# Altium footprint library Connector_JST.PcbLib: 558 footprints (part 10 of 35)
Each footprint in its own frame and in the unit in brackets; x right, y up, seen from the top. Pads: shape width x height; smd on the part's side, far side on the other; paste and mask are expansions set on the pad; w line width, h text height; cw(c..) or ccw(c..) is an arc to the next point about the centre after c.
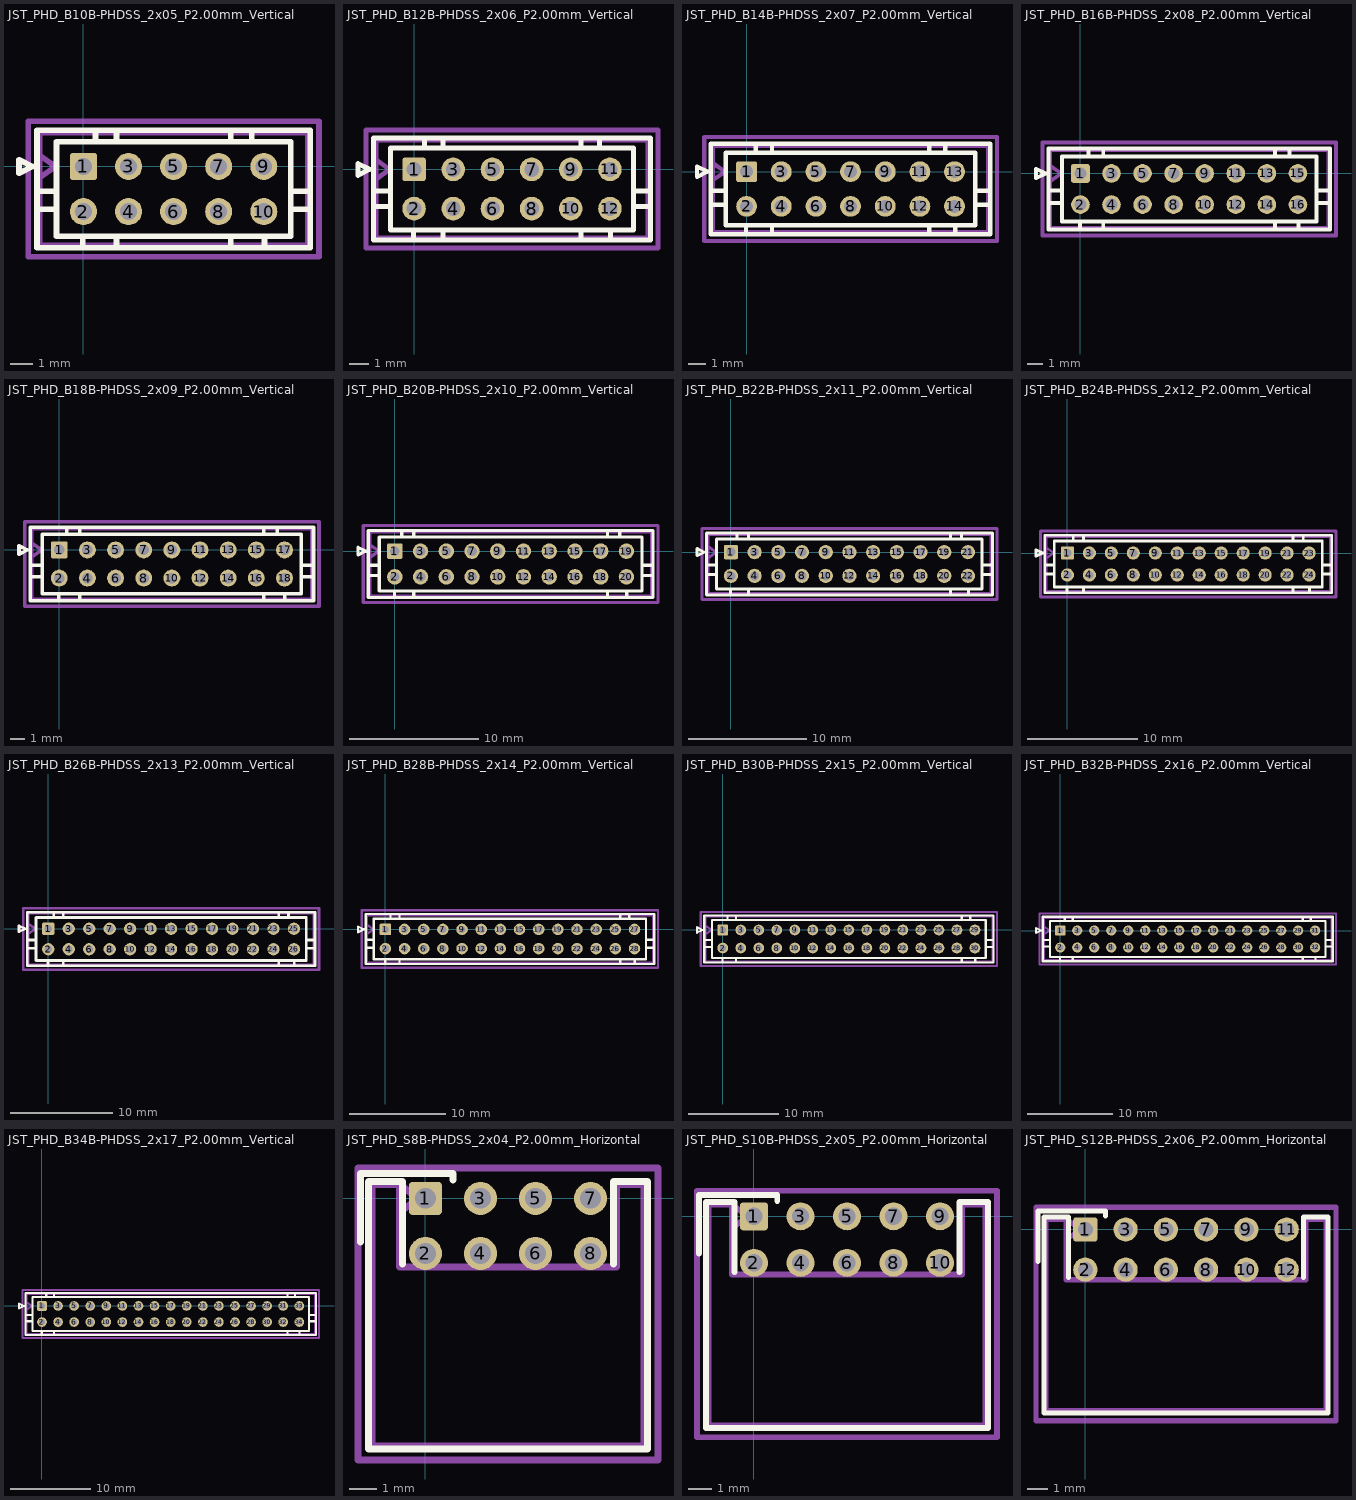
[diagram p9: the footprints below, top view; thin cyan lines are the x and y axes]

## JST_PHD_B10B-PHDSS_2x05_P2.00mm_Vertical [mm] "JST_PHD_B10B-PHDSS_2x05_P2.00mm_Vertical"
pads (10):
  rrect21% 1.2x1.2 hole 0.75: 1(0,0)
  round 1.2 hole 0.75: 2(0,-2) 3(2,0) 4(2,-2) 5(4,0) 6(4,-2) 7(6,0) 8(6,-2) 9(8,0) 10(8,-2)
F.SilkS:
  lines w0.254: -2.06,-1.9 -1.2,-1.9 ; -2.06,-1.1 -1.2,-1.1 ; -0.03,-3.61 -0.03,-3.1 ; 0.53,1.1 0.53,1.61 ; 1.47,-3.61 1.47,-3.1 ; 1.47,1.1 1.47,1.61 ; 6.53,-3.61 6.53,-3.1 ; 6.53,1.1 6.53,1.61 ; 7.47,1.1 7.47,1.61 ; 8.03,-3.61 8.03,-3.1 ; 9.2,-1.9 10.06,-1.9 ; 9.2,-1.1 10.06,-1.1 ; -2.86,-0.3 -2.86,0.3 -2.26,0 -2.86,-0.3 ; -2.06,-3.61 -2.06,1.61 10.06,1.61 10.06,-3.61 -2.06,-3.61 ; -1.2,-3.1 -1.2,1.1 9.2,1.1 9.2,-3.1 -1.2,-3.1
Top Component Center:
  lines w0.127: -0.127,0 0.127,0 ; 0,-0.127 0,0.127
Top Assembly:
  lines w0.254: -1.95,-0.5 -1.243,0 -1.95,0.5 ; -1.95,-3.5 -1.95,1.5 9.95,1.5 9.95,-3.5 -1.95,-3.5
Top Courtyard:
  lines w0.254: -2.45,-4 -2.45,2 10.45,2 10.45,-4 -2.45,-4
Top Designator:
  text ".Designator" at 0.365,-1.344 h1.52

## JST_PHD_B12B-PHDSS_2x06_P2.00mm_Vertical [mm] "JST_PHD_B12B-PHDSS_2x06_P2.00mm_Vertical"
pads (12):
  rrect21% 1.2x1.2 hole 0.75: 1(0,0)
  round 1.2 hole 0.75: 2(0,-2) 3(2,0) 4(2,-2) 5(4,0) 6(4,-2) 7(6,0) 8(6,-2) 9(8,0) 10(8,-2) 11(10,0) 12(10,-2)
F.SilkS:
  lines w0.254: -2.06,-1.9 -1.2,-1.9 ; -2.06,-1.1 -1.2,-1.1 ; -0.03,-3.61 -0.03,-3.1 ; 0.53,1.1 0.53,1.61 ; 1.47,-3.61 1.47,-3.1 ; 1.47,1.1 1.47,1.61 ; 8.53,-3.61 8.53,-3.1 ; 8.53,1.1 8.53,1.61 ; 9.47,1.1 9.47,1.61 ; 10.03,-3.61 10.03,-3.1 ; 11.2,-1.9 12.06,-1.9 ; 11.2,-1.1 12.06,-1.1 ; -2.86,-0.3 -2.26,0 -2.86,0.3 -2.86,-0.3 ; -2.06,-3.61 12.06,-3.61 12.06,1.61 -2.06,1.61 -2.06,-3.61 ; -1.2,-3.1 11.2,-3.1 11.2,1.1 -1.2,1.1 -1.2,-3.1
Top Component Center:
  lines w0.127: -0.127,0 0.127,0 ; 0,-0.127 0,0.127
Top Assembly:
  lines w0.254: -1.95,-0.5 -1.243,0 -1.95,0.5 ; -1.95,-3.5 11.95,-3.5 11.95,1.5 -1.95,1.5 -1.95,-3.5
Top Courtyard:
  lines w0.254: -2.45,-4 12.45,-4 12.45,2 -2.45,2 -2.45,-4
Top Designator:
  text ".Designator" at 1.365,-1.344 h1.52

## JST_PHD_B14B-PHDSS_2x07_P2.00mm_Vertical [mm] "JST_PHD_B14B-PHDSS_2x07_P2.00mm_Vertical"
pads (14):
  rrect21% 1.2x1.2 hole 0.75: 1(0,0)
  round 1.2 hole 0.75: 2(0,-2) 3(2,0) 4(2,-2) 5(4,0) 6(4,-2) 7(6,0) 8(6,-2) 9(8,0) 10(8,-2) 11(10,0) 12(10,-2) 13(12,0) 14(12,-2)
F.SilkS:
  lines w0.254: -2.06,-1.9 -1.2,-1.9 ; -2.06,-1.1 -1.2,-1.1 ; -0.03,-3.61 -0.03,-3.1 ; 0.53,1.1 0.53,1.61 ; 1.47,-3.61 1.47,-3.1 ; 1.47,1.1 1.47,1.61 ; 10.53,-3.61 10.53,-3.1 ; 10.53,1.1 10.53,1.61 ; 11.47,1.1 11.47,1.61 ; 12.03,-3.61 12.03,-3.1 ; 13.2,-1.9 14.06,-1.9 ; 13.2,-1.1 14.06,-1.1 ; -2.86,-0.3 -2.86,0.3 -2.26,0 -2.86,-0.3 ; -2.06,-3.61 -2.06,1.61 14.06,1.61 14.06,-3.61 -2.06,-3.61 ; -1.2,-3.1 -1.2,1.1 13.2,1.1 13.2,-3.1 -1.2,-3.1
Top Component Center:
  lines w0.127: -0.127,0 0.127,0 ; 0,-0.127 0,0.127
Top Assembly:
  lines w0.254: -1.95,-0.5 -1.243,0 -1.95,0.5 ; -1.95,-3.5 -1.95,1.5 13.95,1.5 13.95,-3.5 -1.95,-3.5
Top Courtyard:
  lines w0.254: -2.45,-4 -2.45,2 14.45,2 14.45,-4 -2.45,-4
Top Designator:
  text ".Designator" at 2.365,-1.344 h1.52

## JST_PHD_B16B-PHDSS_2x08_P2.00mm_Vertical [mm] "JST_PHD_B16B-PHDSS_2x08_P2.00mm_Vertical"
pads (16):
  rrect21% 1.2x1.2 hole 0.75: 1(0,0)
  round 1.2 hole 0.75: 2(0,-2) 3(2,0) 4(2,-2) 5(4,0) 6(4,-2) 7(6,0) 8(6,-2) 9(8,0) 10(8,-2) 11(10,0) 12(10,-2) 13(12,0) 14(12,-2) 15(14,0) 16(14,-2)
F.SilkS:
  lines w0.254: -2.06,-1.9 -1.2,-1.9 ; -2.06,-1.1 -1.2,-1.1 ; -0.03,-3.61 -0.03,-3.1 ; 0.53,1.1 0.53,1.61 ; 1.47,-3.61 1.47,-3.1 ; 1.47,1.1 1.47,1.61 ; 12.53,-3.61 12.53,-3.1 ; 12.53,1.1 12.53,1.61 ; 13.47,1.1 13.47,1.61 ; 14.03,-3.61 14.03,-3.1 ; 15.2,-1.9 16.06,-1.9 ; 15.2,-1.1 16.06,-1.1 ; -2.86,-0.3 -2.86,0.3 -2.26,0 -2.86,-0.3 ; -2.06,-3.61 -2.06,1.61 16.06,1.61 16.06,-3.61 -2.06,-3.61 ; -1.2,-3.1 -1.2,1.1 15.2,1.1 15.2,-3.1 -1.2,-3.1
Top Component Center:
  lines w0.127: -0.127,0 0.127,0 ; 0,-0.127 0,0.127
Top Assembly:
  lines w0.254: -1.95,-0.5 -1.243,0 -1.95,0.5 ; -1.95,-3.5 -1.95,1.5 15.95,1.5 15.95,-3.5 -1.95,-3.5
Top Courtyard:
  lines w0.254: -2.45,-4 -2.45,2 16.45,2 16.45,-4 -2.45,-4
Top Designator:
  text ".Designator" at 3.365,-1.344 h1.52

## JST_PHD_B18B-PHDSS_2x09_P2.00mm_Vertical [mm] "JST_PHD_B18B-PHDSS_2x09_P2.00mm_Vertical"
pads (18):
  rrect21% 1.2x1.2 hole 0.75: 1(0,0)
  round 1.2 hole 0.75: 2(0,-2) 3(2,0) 4(2,-2) 5(4,0) 6(4,-2) 7(6,0) 8(6,-2) 9(8,0) 10(8,-2) 11(10,0) 12(10,-2) 13(12,0) 14(12,-2) 15(14,0) 16(14,-2) 17(16,0) 18(16,-2)
F.SilkS:
  lines w0.254: -2.06,-1.9 -1.2,-1.9 ; -2.06,-1.1 -1.2,-1.1 ; -0.03,-3.61 -0.03,-3.1 ; 0.53,1.1 0.53,1.61 ; 1.47,-3.61 1.47,-3.1 ; 1.47,1.1 1.47,1.61 ; 14.53,-3.61 14.53,-3.1 ; 14.53,1.1 14.53,1.61 ; 15.47,1.1 15.47,1.61 ; 16.03,-3.61 16.03,-3.1 ; 17.2,-1.9 18.06,-1.9 ; 17.2,-1.1 18.06,-1.1 ; -2.86,-0.3 -2.26,0 -2.86,0.3 -2.86,-0.3 ; -2.06,-3.61 18.06,-3.61 18.06,1.61 -2.06,1.61 -2.06,-3.61 ; -1.2,-3.1 17.2,-3.1 17.2,1.1 -1.2,1.1 -1.2,-3.1
Top Component Center:
  lines w0.127: -0.127,0 0.127,0 ; 0,-0.127 0,0.127
Top Assembly:
  lines w0.254: -1.95,-0.5 -1.243,0 -1.95,0.5 ; -1.95,-3.5 17.95,-3.5 17.95,1.5 -1.95,1.5 -1.95,-3.5
Top Courtyard:
  lines w0.254: -2.45,-4 18.45,-4 18.45,2 -2.45,2 -2.45,-4
Top Designator:
  text ".Designator" at 4.365,-1.344 h1.52

## JST_PHD_B20B-PHDSS_2x10_P2.00mm_Vertical [mm] "JST_PHD_B20B-PHDSS_2x10_P2.00mm_Vertical"
pads (20):
  rrect21% 1.2x1.2 hole 0.75: 1(0,0)
  round 1.2 hole 0.75: 2(0,-2) 3(2,0) 4(2,-2) 5(4,0) 6(4,-2) 7(6,0) 8(6,-2) 9(8,0) 10(8,-2) 11(10,0) 12(10,-2) 13(12,0) 14(12,-2) 15(14,0) 16(14,-2) 17(16,0) 18(16,-2) 19(18,0) 20(18,-2)
F.SilkS:
  lines w0.254: -2.06,-1.9 -1.2,-1.9 ; -2.06,-1.1 -1.2,-1.1 ; -0.03,-3.61 -0.03,-3.1 ; 0.53,1.1 0.53,1.61 ; 1.47,-3.61 1.47,-3.1 ; 1.47,1.1 1.47,1.61 ; 16.53,-3.61 16.53,-3.1 ; 16.53,1.1 16.53,1.61 ; 17.47,1.1 17.47,1.61 ; 18.03,-3.61 18.03,-3.1 ; 19.2,-1.9 20.06,-1.9 ; 19.2,-1.1 20.06,-1.1 ; -2.86,-0.3 -2.26,0 -2.86,0.3 -2.86,-0.3 ; -2.06,-3.61 20.06,-3.61 20.06,1.61 -2.06,1.61 -2.06,-3.61 ; -1.2,-3.1 19.2,-3.1 19.2,1.1 -1.2,1.1 -1.2,-3.1
Top Component Center:
  lines w0.127: -0.127,0 0.127,0 ; 0,-0.127 0,0.127
Top Assembly:
  lines w0.254: -1.95,-0.5 -1.243,0 -1.95,0.5 ; -1.95,-3.5 19.95,-3.5 19.95,1.5 -1.95,1.5 -1.95,-3.5
Top Courtyard:
  lines w0.254: -2.45,-4 20.45,-4 20.45,2 -2.45,2 -2.45,-4
Top Designator:
  text ".Designator" at 5.365,-1.344 h1.52

## JST_PHD_B22B-PHDSS_2x11_P2.00mm_Vertical [mm] "JST_PHD_B22B-PHDSS_2x11_P2.00mm_Vertical"
pads (22):
  rrect21% 1.2x1.2 hole 0.75: 1(0,0)
  round 1.2 hole 0.75: 2(0,-2) 3(2,0) 4(2,-2) 5(4,0) 6(4,-2) 7(6,0) 8(6,-2) 9(8,0) 10(8,-2) 11(10,0) 12(10,-2) 13(12,0) 14(12,-2) 15(14,0) 16(14,-2) 17(16,0) 18(16,-2) 19(18,0) 20(18,-2) 21(20,0) 22(20,-2)
F.SilkS:
  lines w0.254: -2.06,-1.9 -1.2,-1.9 ; -2.06,-1.1 -1.2,-1.1 ; -0.03,-3.61 -0.03,-3.1 ; 0.53,1.1 0.53,1.61 ; 1.47,-3.61 1.47,-3.1 ; 1.47,1.1 1.47,1.61 ; 18.53,-3.61 18.53,-3.1 ; 18.53,1.1 18.53,1.61 ; 19.47,1.1 19.47,1.61 ; 20.03,-3.61 20.03,-3.1 ; 21.2,-1.9 22.06,-1.9 ; 21.2,-1.1 22.06,-1.1 ; -2.86,-0.3 -2.26,0 -2.86,0.3 -2.86,-0.3 ; -2.06,-3.61 22.06,-3.61 22.06,1.61 -2.06,1.61 -2.06,-3.61 ; -1.2,-3.1 21.2,-3.1 21.2,1.1 -1.2,1.1 -1.2,-3.1
Top Component Center:
  lines w0.127: -0.127,0 0.127,0 ; 0,-0.127 0,0.127
Top Assembly:
  lines w0.254: -1.95,-0.5 -1.243,0 -1.95,0.5 ; -1.95,-3.5 21.95,-3.5 21.95,1.5 -1.95,1.5 -1.95,-3.5
Top Courtyard:
  lines w0.254: -2.45,-4 22.45,-4 22.45,2 -2.45,2 -2.45,-4
Top Designator:
  text ".Designator" at 6.365,-1.344 h1.52

## JST_PHD_B24B-PHDSS_2x12_P2.00mm_Vertical [mm] "JST_PHD_B24B-PHDSS_2x12_P2.00mm_Vertical"
pads (24):
  rrect21% 1.2x1.2 hole 0.75: 1(0,0)
  round 1.2 hole 0.75: 2(0,-2) 3(2,0) 4(2,-2) 5(4,0) 6(4,-2) 7(6,0) 8(6,-2) 9(8,0) 10(8,-2) 11(10,0) 12(10,-2) 13(12,0) 14(12,-2) 15(14,0) 16(14,-2) 17(16,0) 18(16,-2) 19(18,0) 20(18,-2) 21(20,0) 22(20,-2) 23(22,0) 24(22,-2)
F.SilkS:
  lines w0.254: -2.06,-1.9 -1.2,-1.9 ; -2.06,-1.1 -1.2,-1.1 ; -0.03,-3.61 -0.03,-3.1 ; 0.53,1.1 0.53,1.61 ; 1.47,-3.61 1.47,-3.1 ; 1.47,1.1 1.47,1.61 ; 20.53,-3.61 20.53,-3.1 ; 20.53,1.1 20.53,1.61 ; 21.47,1.1 21.47,1.61 ; 22.03,-3.61 22.03,-3.1 ; 23.2,-1.9 24.06,-1.9 ; 23.2,-1.1 24.06,-1.1 ; -2.86,-0.3 -2.86,0.3 -2.26,0 -2.86,-0.3 ; -2.06,-3.61 -2.06,1.61 24.06,1.61 24.06,-3.61 -2.06,-3.61 ; -1.2,-3.1 -1.2,1.1 23.2,1.1 23.2,-3.1 -1.2,-3.1
Top Component Center:
  lines w0.127: -0.127,0 0.127,0 ; 0,-0.127 0,0.127
Top Assembly:
  lines w0.254: -1.95,-0.5 -1.243,0 -1.95,0.5 ; -1.95,-3.5 -1.95,1.5 23.95,1.5 23.95,-3.5 -1.95,-3.5
Top Courtyard:
  lines w0.254: -2.45,-4 -2.45,2 24.45,2 24.45,-4 -2.45,-4
Top Designator:
  text ".Designator" at 7.365,-1.344 h1.52

## JST_PHD_B26B-PHDSS_2x13_P2.00mm_Vertical [mm] "JST_PHD_B26B-PHDSS_2x13_P2.00mm_Vertical"
pads (26):
  rrect21% 1.2x1.2 hole 0.75: 1(0,0)
  round 1.2 hole 0.75: 2(0,-2) 3(2,0) 4(2,-2) 5(4,0) 6(4,-2) 7(6,0) 8(6,-2) 9(8,0) 10(8,-2) 11(10,0) 12(10,-2) 13(12,0) 14(12,-2) 15(14,0) 16(14,-2) 17(16,0) 18(16,-2) 19(18,0) 20(18,-2) 21(20,0) 22(20,-2) 23(22,0) 24(22,-2) 25(24,0) 26(24,-2)
F.SilkS:
  lines w0.254: -2.06,-1.9 -1.2,-1.9 ; -2.06,-1.1 -1.2,-1.1 ; -0.03,-3.61 -0.03,-3.1 ; 0.53,1.1 0.53,1.61 ; 1.47,-3.61 1.47,-3.1 ; 1.47,1.1 1.47,1.61 ; 22.53,-3.61 22.53,-3.1 ; 22.53,1.1 22.53,1.61 ; 23.47,1.1 23.47,1.61 ; 24.03,-3.61 24.03,-3.1 ; 25.2,-1.9 26.06,-1.9 ; 25.2,-1.1 26.06,-1.1 ; -2.86,-0.3 -2.86,0.3 -2.26,0 -2.86,-0.3 ; -2.06,-3.61 -2.06,1.61 26.06,1.61 26.06,-3.61 -2.06,-3.61 ; -1.2,-3.1 -1.2,1.1 25.2,1.1 25.2,-3.1 -1.2,-3.1
Top Component Center:
  lines w0.127: -0.127,0 0.127,0 ; 0,-0.127 0,0.127
Top Assembly:
  lines w0.254: -1.95,-0.5 -1.243,0 -1.95,0.5 ; -1.95,-3.5 -1.95,1.5 25.95,1.5 25.95,-3.5 -1.95,-3.5
Top Courtyard:
  lines w0.254: -2.45,-4 -2.45,2 26.45,2 26.45,-4 -2.45,-4
Top Designator:
  text ".Designator" at 8.365,-1.344 h1.52

## JST_PHD_B28B-PHDSS_2x14_P2.00mm_Vertical [mm] "JST_PHD_B28B-PHDSS_2x14_P2.00mm_Vertical"
pads (28):
  rrect21% 1.2x1.2 hole 0.75: 1(0,0)
  round 1.2 hole 0.75: 2(0,-2) 3(2,0) 4(2,-2) 5(4,0) 6(4,-2) 7(6,0) 8(6,-2) 9(8,0) 10(8,-2) 11(10,0) 12(10,-2) 13(12,0) 14(12,-2) 15(14,0) 16(14,-2) 17(16,0) 18(16,-2) 19(18,0) 20(18,-2) 21(20,0) 22(20,-2) 23(22,0) 24(22,-2) 25(24,0) 26(24,-2) 27(26,0) 28(26,-2)
F.SilkS:
  lines w0.254: -2.06,-1.9 -1.2,-1.9 ; -2.06,-1.1 -1.2,-1.1 ; -0.03,-3.61 -0.03,-3.1 ; 0.53,1.1 0.53,1.61 ; 1.47,-3.61 1.47,-3.1 ; 1.47,1.1 1.47,1.61 ; 24.53,-3.61 24.53,-3.1 ; 24.53,1.1 24.53,1.61 ; 25.47,1.1 25.47,1.61 ; 26.03,-3.61 26.03,-3.1 ; 27.2,-1.9 28.06,-1.9 ; 27.2,-1.1 28.06,-1.1 ; -2.86,-0.3 -2.26,0 -2.86,0.3 -2.86,-0.3 ; -2.06,-3.61 28.06,-3.61 28.06,1.61 -2.06,1.61 -2.06,-3.61 ; -1.2,-3.1 27.2,-3.1 27.2,1.1 -1.2,1.1 -1.2,-3.1
Top Component Center:
  lines w0.127: -0.127,0 0.127,0 ; 0,-0.127 0,0.127
Top Assembly:
  lines w0.254: -1.95,-0.5 -1.243,0 -1.95,0.5 ; -1.95,-3.5 27.95,-3.5 27.95,1.5 -1.95,1.5 -1.95,-3.5
Top Courtyard:
  lines w0.254: -2.45,-4 28.45,-4 28.45,2 -2.45,2 -2.45,-4
Top Designator:
  text ".Designator" at 9.365,-1.344 h1.52

## JST_PHD_B30B-PHDSS_2x15_P2.00mm_Vertical [mm] "JST_PHD_B30B-PHDSS_2x15_P2.00mm_Vertical"
pads (30):
  rrect21% 1.2x1.2 hole 0.75: 1(0,0)
  round 1.2 hole 0.75: 2(0,-2) 3(2,0) 4(2,-2) 5(4,0) 6(4,-2) 7(6,0) 8(6,-2) 9(8,0) 10(8,-2) 11(10,0) 12(10,-2) 13(12,0) 14(12,-2) 15(14,0) 16(14,-2) 17(16,0) 18(16,-2) 19(18,0) 20(18,-2) 21(20,0) 22(20,-2) 23(22,0) 24(22,-2) 25(24,0) 26(24,-2) 27(26,0) 28(26,-2) 29(28,0) 30(28,-2)
F.SilkS:
  lines w0.254: -2.06,-1.9 -1.2,-1.9 ; -2.06,-1.1 -1.2,-1.1 ; -0.03,-3.61 -0.03,-3.1 ; 0.53,1.1 0.53,1.61 ; 1.47,-3.61 1.47,-3.1 ; 1.47,1.1 1.47,1.61 ; 26.53,-3.61 26.53,-3.1 ; 26.53,1.1 26.53,1.61 ; 27.47,1.1 27.47,1.61 ; 28.03,-3.61 28.03,-3.1 ; 29.2,-1.9 30.06,-1.9 ; 29.2,-1.1 30.06,-1.1 ; -2.86,-0.3 -2.26,0 -2.86,0.3 -2.86,-0.3 ; -2.06,-3.61 30.06,-3.61 30.06,1.61 -2.06,1.61 -2.06,-3.61 ; -1.2,-3.1 29.2,-3.1 29.2,1.1 -1.2,1.1 -1.2,-3.1
Top Component Center:
  lines w0.127: -0.127,0 0.127,0 ; 0,-0.127 0,0.127
Top Assembly:
  lines w0.254: -1.95,-0.5 -1.243,0 -1.95,0.5 ; -1.95,-3.5 29.95,-3.5 29.95,1.5 -1.95,1.5 -1.95,-3.5
Top Courtyard:
  lines w0.254: -2.45,-4 30.45,-4 30.45,2 -2.45,2 -2.45,-4
Top Designator:
  text ".Designator" at 10.365,-1.344 h1.52

## JST_PHD_B32B-PHDSS_2x16_P2.00mm_Vertical [mm] "JST_PHD_B32B-PHDSS_2x16_P2.00mm_Vertical"
pads (32):
  rrect21% 1.2x1.2 hole 0.75: 1(0,0)
  round 1.2 hole 0.75: 2(0,-2) 3(2,0) 4(2,-2) 5(4,0) 6(4,-2) 7(6,0) 8(6,-2) 9(8,0) 10(8,-2) 11(10,0) 12(10,-2) 13(12,0) 14(12,-2) 15(14,0) 16(14,-2) 17(16,0) 18(16,-2) 19(18,0) 20(18,-2) 21(20,0) 22(20,-2) 23(22,0) 24(22,-2) 25(24,0) 26(24,-2) 27(26,0) 28(26,-2) 29(28,0) 30(28,-2) 31(30,0) 32(30,-2)
F.SilkS:
  lines w0.254: -2.06,-1.9 -1.2,-1.9 ; -2.06,-1.1 -1.2,-1.1 ; -0.03,-3.61 -0.03,-3.1 ; 0.53,1.1 0.53,1.61 ; 1.47,-3.61 1.47,-3.1 ; 1.47,1.1 1.47,1.61 ; 28.53,-3.61 28.53,-3.1 ; 28.53,1.1 28.53,1.61 ; 29.47,1.1 29.47,1.61 ; 30.03,-3.61 30.03,-3.1 ; 31.2,-1.9 32.06,-1.9 ; 31.2,-1.1 32.06,-1.1 ; -2.86,-0.3 -2.86,0.3 -2.26,0 -2.86,-0.3 ; -2.06,-3.61 -2.06,1.61 32.06,1.61 32.06,-3.61 -2.06,-3.61 ; -1.2,-3.1 -1.2,1.1 31.2,1.1 31.2,-3.1 -1.2,-3.1
Top Component Center:
  lines w0.127: -0.127,0 0.127,0 ; 0,-0.127 0,0.127
Top Assembly:
  lines w0.254: -1.95,-0.5 -1.243,0 -1.95,0.5 ; -1.95,-3.5 -1.95,1.5 31.95,1.5 31.95,-3.5 -1.95,-3.5
Top Courtyard:
  lines w0.254: -2.45,-4 -2.45,2 32.45,2 32.45,-4 -2.45,-4
Top Designator:
  text ".Designator" at 11.365,-1.344 h1.52

## JST_PHD_B34B-PHDSS_2x17_P2.00mm_Vertical [mm] "JST_PHD_B34B-PHDSS_2x17_P2.00mm_Vertical"
pads (34):
  rrect21% 1.2x1.2 hole 0.75: 1(0,0)
  round 1.2 hole 0.75: 2(0,-2) 3(2,0) 4(2,-2) 5(4,0) 6(4,-2) 7(6,0) 8(6,-2) 9(8,0) 10(8,-2) 11(10,0) 12(10,-2) 13(12,0) 14(12,-2) 15(14,0) 16(14,-2) 17(16,0) 18(16,-2) 19(18,0) 20(18,-2) 21(20,0) 22(20,-2) 23(22,0) 24(22,-2) 25(24,0) 26(24,-2) 27(26,0) 28(26,-2) 29(28,0) 30(28,-2) 31(30,0) 32(30,-2) 33(32,0) 34(32,-2)
F.SilkS:
  lines w0.254: -2.06,-1.9 -1.2,-1.9 ; -2.06,-1.1 -1.2,-1.1 ; -0.03,-3.61 -0.03,-3.1 ; 0.53,1.1 0.53,1.61 ; 1.47,-3.61 1.47,-3.1 ; 1.47,1.1 1.47,1.61 ; 30.53,-3.61 30.53,-3.1 ; 30.53,1.1 30.53,1.61 ; 31.47,1.1 31.47,1.61 ; 32.03,-3.61 32.03,-3.1 ; 33.2,-1.9 34.06,-1.9 ; 33.2,-1.1 34.06,-1.1 ; -2.86,-0.3 -2.86,0.3 -2.26,0 -2.86,-0.3 ; -2.06,-3.61 -2.06,1.61 34.06,1.61 34.06,-3.61 -2.06,-3.61 ; -1.2,-3.1 -1.2,1.1 33.2,1.1 33.2,-3.1 -1.2,-3.1
Top Component Center:
  lines w0.127: -0.127,0 0.127,0 ; 0,-0.127 0,0.127
Top Assembly:
  lines w0.254: -1.95,-0.5 -1.243,0 -1.95,0.5 ; -1.95,-3.5 -1.95,1.5 33.95,1.5 33.95,-3.5 -1.95,-3.5
Top Courtyard:
  lines w0.254: -2.45,-4 -2.45,2 34.45,2 34.45,-4 -2.45,-4
Top Designator:
  text ".Designator" at 12.365,-1.344 h1.52

## JST_PHD_S8B-PHDSS_2x04_P2.00mm_Horizontal [mm] "JST_PHD_S8B-PHDSS_2x04_P2.00mm_Horizontal"
pads (8):
  rrect21% 1.2x1.2 hole 0.75: 1(0,0)
  round 1.2 hole 0.75: 2(0,-2) 3(2,0) 4(2,-2) 5(4,0) 6(4,-2) 7(6,0) 8(6,-2)
F.SilkS:
  lines w0.254: -2.36,-1.59 -2.36,0.91 1,0.91 1,0.66 ; -0.84,-2.39 -0.84,0.61 -2.06,0.61 -2.06,-9.11 3,-9.11 8.06,-9.11 8.06,0.61 6.84,0.61 6.84,-2.39
Top Component Center:
  lines w0.127: -0.127,0 0.127,0 ; 0,-0.127 0,0.127
Top Assembly:
  lines w0.254: -0.95,-0.5 -0.243,0 -0.95,0.5 ; -0.95,0.5 -0.95,-2.5 6.95,-2.5 6.95,0.5 7.95,0.5 7.95,-9 -1.95,-9 -1.95,0.5 -0.95,0.5
Top Courtyard:
  lines w0.254: -2.45,-9.5 8.45,-9.5 8.45,1.1 -2.45,1.1 -2.45,-9.5
Top Designator:
  text ".Designator" at -0.43,-4.544 h1.52

## JST_PHD_S10B-PHDSS_2x05_P2.00mm_Horizontal [mm] "JST_PHD_S10B-PHDSS_2x05_P2.00mm_Horizontal"
pads (10):
  rrect21% 1.2x1.2 hole 0.75: 1(0,0)
  round 1.2 hole 0.75: 2(0,-2) 3(2,0) 4(2,-2) 5(4,0) 6(4,-2) 7(6,0) 8(6,-2) 9(8,0) 10(8,-2)
F.SilkS:
  lines w0.254: -2.36,-1.59 -2.36,0.91 1,0.91 1,0.66 ; -0.84,-2.39 -0.84,0.61 -2.06,0.61 -2.06,-9.11 4,-9.11 10.06,-9.11 10.06,0.61 8.84,0.61 8.84,-2.39
Top Component Center:
  lines w0.127: -0.127,0 0.127,0 ; 0,-0.127 0,0.127
Top Assembly:
  lines w0.254: -0.95,-0.5 -0.243,0 -0.95,0.5 ; -0.95,0.5 -1.95,0.5 -1.95,-9 9.95,-9 9.95,0.5 8.95,0.5 8.95,-2.5 -0.95,-2.5 -0.95,0.5
Top Courtyard:
  lines w0.254: -2.45,-9.5 -2.45,1.1 10.45,1.1 10.45,-9.5 -2.45,-9.5
Top Designator:
  text ".Designator" at 0.57,-4.544 h1.52

## JST_PHD_S12B-PHDSS_2x06_P2.00mm_Horizontal [mm] "JST_PHD_S12B-PHDSS_2x06_P2.00mm_Horizontal"
pads (12):
  rrect21% 1.2x1.2 hole 0.75: 1(0,0)
  round 1.2 hole 0.75: 2(0,-2) 3(2,0) 4(2,-2) 5(4,0) 6(4,-2) 7(6,0) 8(6,-2) 9(8,0) 10(8,-2) 11(10,0) 12(10,-2)
F.SilkS:
  lines w0.254: -2.36,-1.59 -2.36,0.91 1,0.91 1,0.66 ; -0.84,-2.39 -0.84,0.61 -2.06,0.61 -2.06,-9.11 5,-9.11 12.06,-9.11 12.06,0.61 10.84,0.61 10.84,-2.39
Top Component Center:
  lines w0.127: -0.127,0 0.127,0 ; 0,-0.127 0,0.127
Top Assembly:
  lines w0.254: -0.95,-0.5 -0.243,0 -0.95,0.5 ; -0.95,0.5 -1.95,0.5 -1.95,-9 11.95,-9 11.95,0.5 10.95,0.5 10.95,-2.5 -0.95,-2.5 -0.95,0.5
Top Courtyard:
  lines w0.254: -2.45,-9.5 -2.45,1.1 12.45,1.1 12.45,-9.5 -2.45,-9.5
Top Designator:
  text ".Designator" at 1.57,-4.544 h1.52